# Altium footprint library WR-TBL_Rising Cage Clamp_3.81mm.PcbLib: 26 footprints (part 1 of 2)
Each footprint in its own frame and in the unit in brackets; x right, y up, seen from the top. Pads: shape width x height; smd on the part's side, far side on the other; paste and mask are expansions set on the pad; w line width, h text height; cw(c..) or ccw(c..) is an arc to the next point about the centre after c.
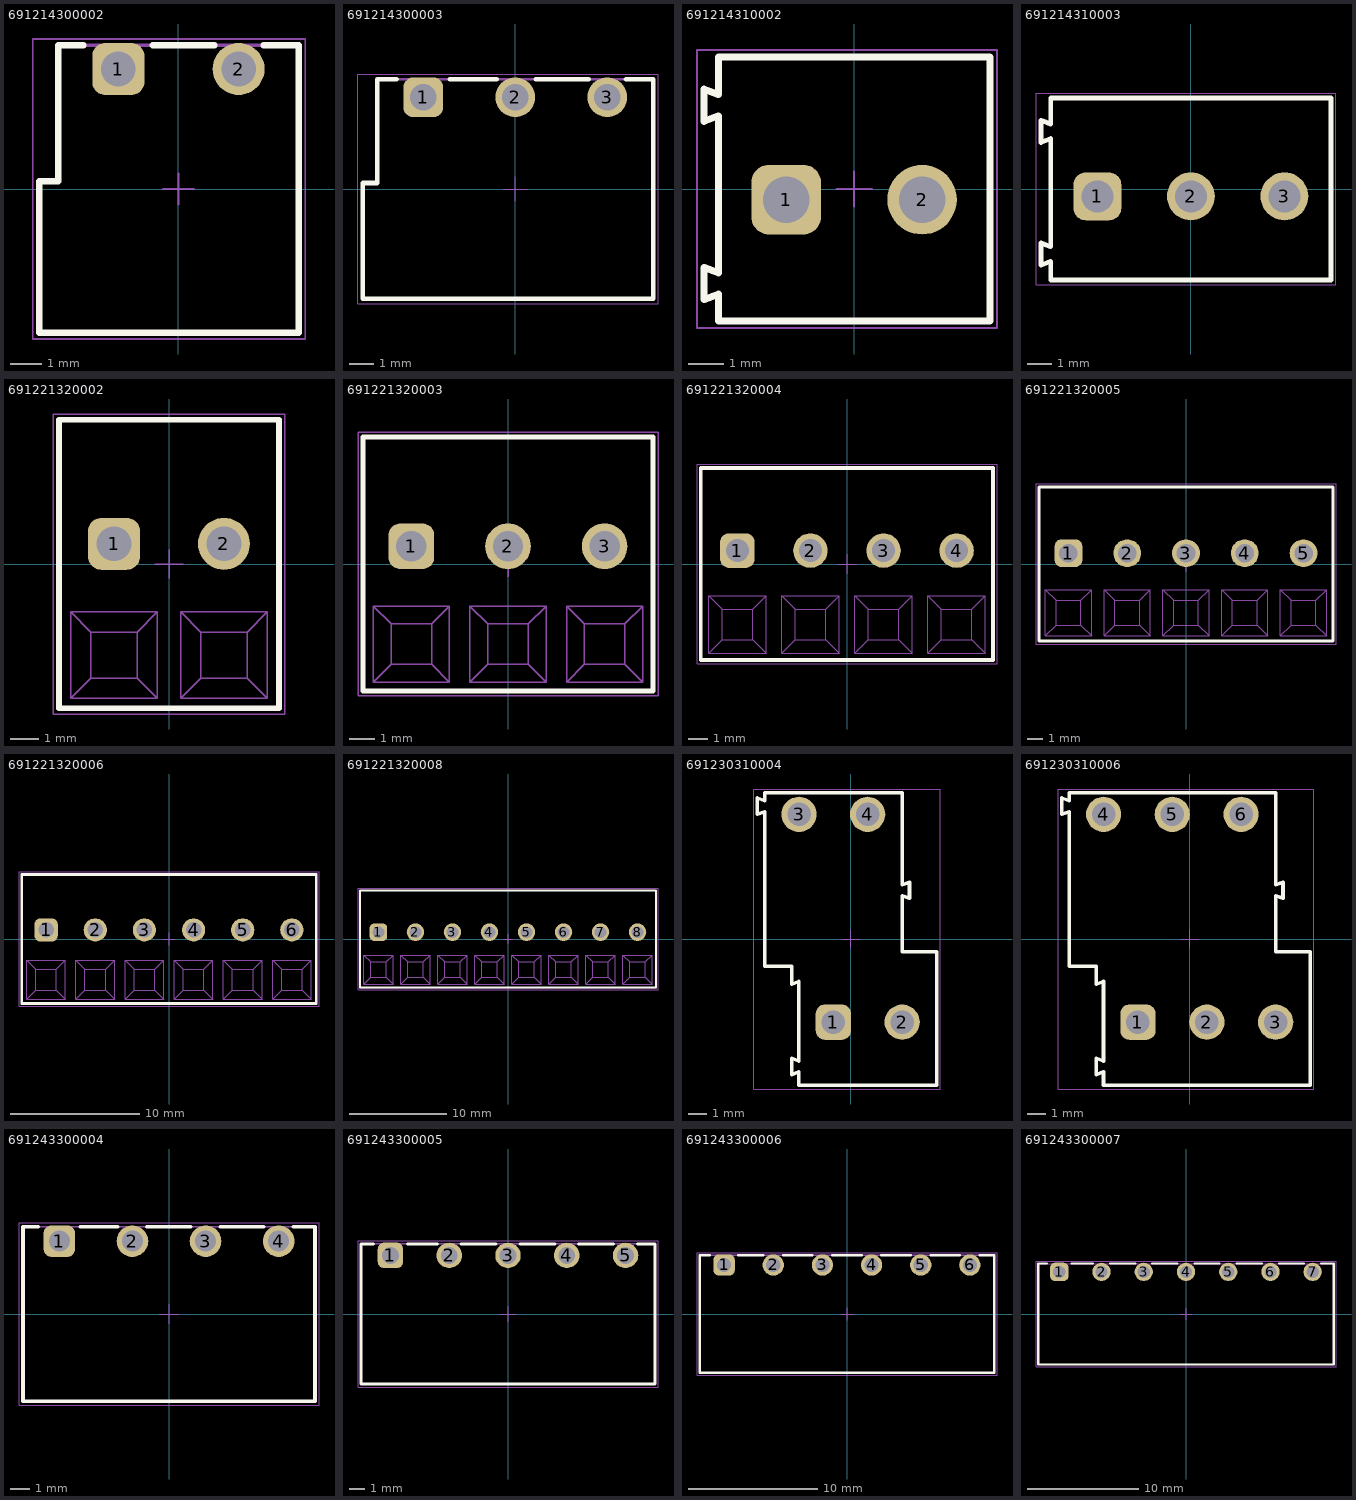
[diagram p0: the footprints below, top view; thin cyan lines are the x and y axes]

## 691214300002 [mm] "Serie 2143 - 3.81 mm _ 2 pins"
height 7.3
pads (2):
  rrect50% 1.65x1.65 hole 1.1: 1(-1.905,3.8)
  round 1.65 hole 1.1: 2(1.905,3.8)
Top Overlay:
  lines w0.2: -3.01,4.55 -3.81,4.55 -3.81,0.25 -4.41,0.25 -4.41,-4.55 3.81,-4.55 3.81,4.55 2.69,4.55 ; -0.81,4.55 1.14,4.55
Top Designator:
  text ".Designator" at -7.498,-0.5 h1.5
Top Component Outline:
  lines w0.1: -4.41,-4.55 -4.41,0.25 -3.81,0.25 -3.81,4.55 3.81,4.55 3.81,-4.55 -4.41,-4.55
Top 3D Body:
  lines w0.1: -4.41,-4.55 3.81,-4.55 3.81,4.55 -3.81,4.55 -3.81,0.25 -4.41,0.25 -4.41,-4.55
Top Courtyard:
  lines w0.05: -4.61,-4.75 -4.61,4.75 4.01,4.75 4.01,-4.75 -4.61,-4.75
Top Component Center:
  lines w0.05: -0.5,0 0.5,0 ; 0,-0.5 0,0.5
3D body "691214300002.stp": height 7.35, standoff -3.45, extent -4.41,-4.55 3.81,4.55

## 691214300003 [mm] "Serie 2143 - 3.81 mm _ 3 pins"
height 7.3
pads (3):
  rrect50% 1.65x1.65 hole 1.1: 1(-3.81,3.8)
  round 1.65 hole 1.1: 2(0,3.8) 3(3.81,3.8)
Top Overlay:
  lines w0.2: -4.915,4.55 -5.715,4.55 -5.715,0.25 -6.315,0.25 -6.315,-4.55 5.715,-4.55 5.715,4.55 4.595,4.55 ; -2.715,4.55 -0.765,4.55 ; 0.85,4.55 3.045,4.55
Top Designator:
  text ".Designator" at -7.498,-0.5 h1.5
Top Component Outline:
  lines w0.1: -6.315,-4.55 5.715,-4.55 5.715,4.55 -5.715,4.55 -5.715,0.25 -6.315,0.25 -6.315,-4.55
Top 3D Body:
  lines w0.1: -6.315,-4.55 -6.315,0.25 -5.715,0.25 -5.715,4.55 5.715,4.55 5.715,-4.55 -6.315,-4.55
Top Courtyard:
  lines w0.05: -6.515,-4.75 5.915,-4.75 5.915,4.75 -6.515,4.75 -6.515,-4.75
Top Component Center:
  lines w0.05: -0.5,0 0.5,0 ; 0,-0.5 0,0.5
3D body "691214300003.stp": height 7.35, standoff -3.45, extent -6.315,-4.55 5.715,4.55

## 691214310002 [mm] "3,81mm - Horizontal wire entry - Rising cage clamp - 02p"
height 8.5
pads (2):
  rrect50% 1.95x1.95 hole 1.3: 1(-1.905,-0.3)
  round 1.95 hole 1.3: 2(1.905,-0.3)
Top Overlay:
  lines w0.2: -4.205,-3.1 -4.205,-2.2 -3.805,-2.35 -3.805,2.05 -4.205,1.9 -4.205,2.8 -3.805,2.65 -3.805,3.7 3.805,3.7 3.805,-3.7 -3.805,-3.7 -3.805,-2.95 -4.205,-3.1
Top Designator:
  text ".Designator" at -7.498,-0.5 h1.5
Top Component Outline:
  lines w0.1: -4.205,-3.1 -3.805,-2.95 -3.805,-3.7 3.805,-3.7 3.805,3.7 -3.805,3.7 -3.805,2.65 -4.205,2.8 -4.205,1.9 -3.805,2.05 -3.805,-2.35 -4.205,-2.2 -4.205,-3.1
Top 3D Body:
  lines w0.1: -4.205,-3.1 -4.205,-2.2 -3.805,-2.35 -3.805,2.05 -4.205,1.9 -4.205,2.8 -3.805,2.65 -3.805,3.7 3.805,3.7 3.805,-3.7 -3.805,-3.7 -3.805,-2.95 -4.205,-3.1
Top Courtyard:
  lines w0.05: -4.405,-3.9 4.005,-3.9 4.005,3.9 -4.405,3.9 -4.405,-3.9
Top Component Center:
  lines w0.05: -0.5,0 0.5,0 ; 0,-0.5 0,0.5
3D body "691214310002.stp": height 8.55, standoff -3.75, extent -4.215,-3.7 3.805,3.7

## 691214310003 [mm] "3,81mm - Horizontal wire entry - Rising cage clamp - 03p"
height 8.5
pads (3):
  rrect50% 1.95x1.95 hole 1.3: 1(-3.81,-0.3)
  round 1.95 hole 1.3: 2(0,-0.3) 3(3.81,-0.3)
Top Overlay:
  lines w0.2: -6.11,-3.1 -5.71,-2.95 -5.71,-3.7 5.71,-3.7 5.71,3.7 -5.71,3.7 -5.71,2.65 -6.11,2.8 -6.11,1.9 -5.71,2.05 -5.71,-2.35 -6.11,-2.2 -6.11,-3.1
Top Designator:
  text ".Designator" at -7.498,-0.5 h1.5
Top Component Outline:
  lines w0.1: -6.11,-3.1 -6.11,-2.2 -5.71,-2.35 -5.71,2.05 -6.11,1.9 -6.11,2.8 -5.71,2.65 -5.71,3.7 5.71,3.7 5.71,-3.7 -5.71,-3.7 -5.71,-2.95 -6.11,-3.1
Top 3D Body:
  lines w0.1: -6.11,-3.1 -5.71,-2.95 -5.71,-3.7 5.71,-3.7 5.71,3.7 -5.71,3.7 -5.71,2.65 -6.11,2.8 -6.11,1.9 -5.71,2.05 -5.71,-2.35 -6.11,-2.2 -6.11,-3.1
Top Courtyard:
  lines w0.05: -6.31,-3.9 -6.31,3.9 5.91,3.9 5.91,-3.9 -6.31,-3.9
Top Component Center:
  lines w0.05: -0.5,0 0.5,0 ; 0,-0.5 0,0.5
3D body "691214310003.stp": height 8.55, standoff -3.75, extent -6.12,-3.7 5.71,3.7

## 691221320002 [mm] "3,81mm - modular - green - 55¡ã wire entry - Cage clamp - 02p"
height 9.5
pads (2):
  rrect50% 1.8x1.8 hole 1.2: 1(-1.905,0.7)
  round 1.8 hole 1.2: 2(1.905,0.7)
Top Overlay:
  lines w0.2: -3.81,-5 3.81,-5 3.81,5 -3.81,5 -3.81,-5
Top Designator:
  text ".Designator" at -7.498,-0.5 h1.5
Top Component Outline:
  lines w0.05: -3.405,-4.66 -0.405,-4.66 ; -3.405,-4.66 -3.405,-1.66 ; -3.405,-4.66 -2.705,-3.96 ; -3.405,-1.66 -0.405,-1.66 ; -3.405,-1.66 -2.705,-2.36 ; -2.705,-3.96 -2.705,-2.36 ; -2.705,-3.96 -1.105,-3.96 ; -2.705,-2.36 -1.105,-2.36 ; -1.105,-3.96 -1.105,-2.36 ; -1.105,-3.96 -0.405,-4.66 ; -1.105,-2.36 -0.405,-1.66 ; -0.405,-4.66 -0.405,-1.66 ; 0.405,-4.66 1.105,-3.96 ; 0.405,-4.66 0.405,-1.66 ; 0.405,-4.66 3.405,-4.66 ; 0.405,-1.66 1.105,-2.36 ; 0.405,-1.66 3.405,-1.66 ; 1.105,-3.96 2.705,-3.96 ; 1.105,-3.96 1.105,-2.36 ; 1.105,-2.36 2.705,-2.36 ; 2.705,-3.96 3.405,-4.66 ; 2.705,-3.96 2.705,-2.36 ; 2.705,-2.36 3.405,-1.66 ; 3.405,-4.66 3.405,-1.66
  lines w0.1: -3.81,-5 -3.81,5 3.81,5 3.81,-5 -3.81,-5
Top 3D Body:
  lines w0.05: -3.405,-4.66 -2.705,-3.96 ; -3.405,-4.66 -3.405,-1.66 ; -3.405,-4.66 -0.405,-4.66 ; -3.405,-1.66 -2.705,-2.36 ; -3.405,-1.66 -0.405,-1.66 ; -2.705,-3.96 -1.105,-3.96 ; -2.705,-3.96 -2.705,-2.36 ; -2.705,-2.36 -1.105,-2.36 ; -1.105,-3.96 -0.405,-4.66 ; -1.105,-3.96 -1.105,-2.36 ; -1.105,-2.36 -0.405,-1.66 ; -0.405,-4.66 -0.405,-1.66 ; 0.405,-4.66 3.405,-4.66 ; 0.405,-4.66 0.405,-1.66 ; 0.405,-4.66 1.105,-3.96 ; 0.405,-1.66 3.405,-1.66 ; 0.405,-1.66 1.105,-2.36 ; 1.105,-3.96 1.105,-2.36 ; 1.105,-3.96 2.705,-3.96 ; 1.105,-2.36 2.705,-2.36 ; 2.705,-3.96 2.705,-2.36 ; 2.705,-3.96 3.405,-4.66 ; 2.705,-2.36 3.405,-1.66 ; 3.405,-4.66 3.405,-1.66
  lines w0.1: -3.81,-5 3.81,-5 3.81,5 -3.81,5 -3.81,-5
Top Courtyard:
  lines w0.05: -4.01,-5.2 4.01,-5.2 4.01,5.2 -4.01,5.2 -4.01,-5.2
Top Component Center:
  lines w0.05: -0.5,0 0.5,0 ; 0,-0.5 0,0.5
3D body "691221320002.stp": height 9.55, standoff -3.45, extent -3.81,-5 3.81,5

## 691221320003 [mm] "3,81mm - modular - green - 55¡ã wire entry - Cage clamp - 03p"
height 9.5
pads (3):
  rrect50% 1.8x1.8 hole 1.2: 1(-3.81,0.7)
  round 1.8 hole 1.2: 2(0,0.7) 3(3.81,0.7)
Top Overlay:
  lines w0.2: -5.715,-5 -5.715,5 5.715,5 5.715,-5 -5.715,-5
Top Designator:
  text ".Designator" at -7.498,-0.5 h1.5
Top Component Outline:
  lines w0.05: -5.31,-4.66 -4.61,-3.96 ; -5.31,-4.66 -5.31,-1.66 ; -5.31,-4.66 -2.31,-4.66 ; -5.31,-1.66 -4.61,-2.36 ; -5.31,-1.66 -2.31,-1.66 ; -4.61,-3.96 -3.01,-3.96 ; -4.61,-3.96 -4.61,-2.36 ; -4.61,-2.36 -3.01,-2.36 ; -3.01,-3.96 -2.31,-4.66 ; -3.01,-3.96 -3.01,-2.36 ; -3.01,-2.36 -2.31,-1.66 ; -2.31,-4.66 -2.31,-1.66 ; -1.5,-4.66 1.5,-4.66 ; -1.5,-4.66 -1.5,-1.66 ; -1.5,-4.66 -0.8,-3.96 ; -1.5,-1.66 1.5,-1.66 ; -1.5,-1.66 -0.8,-2.36 ; -0.8,-3.96 -0.8,-2.36 ; -0.8,-3.96 0.8,-3.96 ; -0.8,-2.36 0.8,-2.36 ; 0.8,-3.96 0.8,-2.36 ; 0.8,-3.96 1.5,-4.66 ; 0.8,-2.36 1.5,-1.66 ; 1.5,-4.66 1.5,-1.66 ; 2.31,-4.66 5.31,-4.66 ; 2.31,-4.66 2.31,-1.66 ; 2.31,-4.66 3.01,-3.96 ; 2.31,-1.66 5.31,-1.66 ; 2.31,-1.66 3.01,-2.36 ; 3.01,-3.96 3.01,-2.36 ; 3.01,-3.96 4.61,-3.96 ; 3.01,-2.36 4.61,-2.36 ; 4.61,-3.96 4.61,-2.36 ; 4.61,-3.96 5.31,-4.66 ; 4.61,-2.36 5.31,-1.66 ; 5.31,-4.66 5.31,-1.66
  lines w0.1: -5.715,-5 5.715,-5 5.715,5 -5.715,5 -5.715,-5
Top 3D Body:
  lines w0.05: -5.31,-4.66 -2.31,-4.66 ; -5.31,-4.66 -5.31,-1.66 ; -5.31,-4.66 -4.61,-3.96 ; -5.31,-1.66 -2.31,-1.66 ; -5.31,-1.66 -4.61,-2.36 ; -4.61,-3.96 -4.61,-2.36 ; -4.61,-3.96 -3.01,-3.96 ; -4.61,-2.36 -3.01,-2.36 ; -3.01,-3.96 -3.01,-2.36 ; -3.01,-3.96 -2.31,-4.66 ; -3.01,-2.36 -2.31,-1.66 ; -2.31,-4.66 -2.31,-1.66 ; -1.5,-4.66 -0.8,-3.96 ; -1.5,-4.66 -1.5,-1.66 ; -1.5,-4.66 1.5,-4.66 ; -1.5,-1.66 -0.8,-2.36 ; -1.5,-1.66 1.5,-1.66 ; -0.8,-3.96 0.8,-3.96 ; -0.8,-3.96 -0.8,-2.36 ; -0.8,-2.36 0.8,-2.36 ; 0.8,-3.96 1.5,-4.66 ; 0.8,-3.96 0.8,-2.36 ; 0.8,-2.36 1.5,-1.66 ; 1.5,-4.66 1.5,-1.66 ; 2.31,-4.66 3.01,-3.96 ; 2.31,-4.66 2.31,-1.66 ; 2.31,-4.66 5.31,-4.66 ; 2.31,-1.66 3.01,-2.36 ; 2.31,-1.66 5.31,-1.66 ; 3.01,-3.96 4.61,-3.96 ; 3.01,-3.96 3.01,-2.36 ; 3.01,-2.36 4.61,-2.36 ; 4.61,-3.96 5.31,-4.66 ; 4.61,-3.96 4.61,-2.36 ; 4.61,-2.36 5.31,-1.66 ; 5.31,-4.66 5.31,-1.66
  lines w0.1: -5.715,-5 -5.715,5 5.715,5 5.715,-5 -5.715,-5
Top Courtyard:
  lines w0.05: -5.915,-5.2 -5.915,5.2 5.915,5.2 5.915,-5.2 -5.915,-5.2
Top Component Center:
  lines w0.05: -0.5,0 0.5,0 ; 0,-0.5 0,0.5
3D body "691221320003.stp": height 9.55, standoff -3.45, extent -5.715,-5 5.715,5

## 691221320004 [mm] "3,81mm - modular - green - 55¡ã wire entry - Cage clamp - 04p"
height 9.5
pads (4):
  rrect50% 1.8x1.8 hole 1.2: 1(-5.715,0.7)
  round 1.8 hole 1.2: 2(-1.905,0.7) 3(1.905,0.7) 4(5.715,0.7)
Top Overlay:
  lines w0.2: -7.62,-5 -7.62,5 7.62,5 7.62,-5 -7.62,-5
Top Designator:
  text ".Designator" at -7.498,-0.5 h1.5
Top Component Outline:
  lines w0.05: -7.215,-4.66 -6.515,-3.96 ; -7.215,-4.66 -7.215,-1.66 ; -7.215,-4.66 -4.215,-4.66 ; -7.215,-1.66 -6.515,-2.36 ; -7.215,-1.66 -4.215,-1.66 ; -6.515,-3.96 -4.915,-3.96 ; -6.515,-3.96 -6.515,-2.36 ; -6.515,-2.36 -4.915,-2.36 ; -4.915,-3.96 -4.215,-4.66 ; -4.915,-3.96 -4.915,-2.36 ; -4.915,-2.36 -4.215,-1.66 ; -4.215,-4.66 -4.215,-1.66 ; -3.405,-4.66 -0.405,-4.66 ; -3.405,-4.66 -3.405,-1.66 ; -3.405,-4.66 -2.705,-3.96 ; -3.405,-1.66 -0.405,-1.66 ; -3.405,-1.66 -2.705,-2.36 ; -2.705,-3.96 -2.705,-2.36 ; -2.705,-3.96 -1.105,-3.96 ; -2.705,-2.36 -1.105,-2.36 ; -1.105,-3.96 -1.105,-2.36 ; -1.105,-3.96 -0.405,-4.66 ; -1.105,-2.36 -0.405,-1.66 ; -0.405,-4.66 -0.405,-1.66 ; 0.405,-4.66 3.405,-4.66 ; 0.405,-4.66 0.405,-1.66 ; 0.405,-4.66 1.105,-3.96 ; 0.405,-1.66 3.405,-1.66 ; 0.405,-1.66 1.105,-2.36 ; 1.105,-3.96 1.105,-2.36 ; 1.105,-3.96 2.705,-3.96 ; 1.105,-2.36 2.705,-2.36 ; 2.705,-3.96 2.705,-2.36 ; 2.705,-3.96 3.405,-4.66 ; 2.705,-2.36 3.405,-1.66 ; 3.405,-4.66 3.405,-1.66 ; 4.215,-4.66 7.215,-4.66 ; 4.215,-4.66 4.215,-1.66 ; 4.215,-4.66 4.915,-3.96 ; 4.215,-1.66 7.215,-1.66 ; 4.215,-1.66 4.915,-2.36 ; 4.915,-3.96 4.915,-2.36 ; 4.915,-3.96 6.515,-3.96 ; 4.915,-2.36 6.515,-2.36 ; 6.515,-3.96 6.515,-2.36 ; 6.515,-3.96 7.215,-4.66 ; 6.515,-2.36 7.215,-1.66 ; 7.215,-4.66 7.215,-1.66
  lines w0.1: -7.62,-5 7.62,-5 7.62,5 -7.62,5 -7.62,-5
Top 3D Body:
  lines w0.05: -7.215,-4.66 -4.215,-4.66 ; -7.215,-4.66 -7.215,-1.66 ; -7.215,-4.66 -6.515,-3.96 ; -7.215,-1.66 -4.215,-1.66 ; -7.215,-1.66 -6.515,-2.36 ; -6.515,-3.96 -6.515,-2.36 ; -6.515,-3.96 -4.915,-3.96 ; -6.515,-2.36 -4.915,-2.36 ; -4.915,-3.96 -4.915,-2.36 ; -4.915,-3.96 -4.215,-4.66 ; -4.915,-2.36 -4.215,-1.66 ; -4.215,-4.66 -4.215,-1.66 ; -3.405,-4.66 -2.705,-3.96 ; -3.405,-4.66 -3.405,-1.66 ; -3.405,-4.66 -0.405,-4.66 ; -3.405,-1.66 -2.705,-2.36 ; -3.405,-1.66 -0.405,-1.66 ; -2.705,-3.96 -1.105,-3.96 ; -2.705,-3.96 -2.705,-2.36 ; -2.705,-2.36 -1.105,-2.36 ; -1.105,-3.96 -0.405,-4.66 ; -1.105,-3.96 -1.105,-2.36 ; -1.105,-2.36 -0.405,-1.66 ; -0.405,-4.66 -0.405,-1.66 ; 0.405,-4.66 1.105,-3.96 ; 0.405,-4.66 0.405,-1.66 ; 0.405,-4.66 3.405,-4.66 ; 0.405,-1.66 1.105,-2.36 ; 0.405,-1.66 3.405,-1.66 ; 1.105,-3.96 2.705,-3.96 ; 1.105,-3.96 1.105,-2.36 ; 1.105,-2.36 2.705,-2.36 ; 2.705,-3.96 3.405,-4.66 ; 2.705,-3.96 2.705,-2.36 ; 2.705,-2.36 3.405,-1.66 ; 3.405,-4.66 3.405,-1.66 ; 4.215,-4.66 4.915,-3.96 ; 4.215,-4.66 4.215,-1.66 ; 4.215,-4.66 7.215,-4.66 ; 4.215,-1.66 4.915,-2.36 ; 4.215,-1.66 7.215,-1.66 ; 4.915,-3.96 6.515,-3.96 ; 4.915,-3.96 4.915,-2.36 ; 4.915,-2.36 6.515,-2.36 ; 6.515,-3.96 7.215,-4.66 ; 6.515,-3.96 6.515,-2.36 ; 6.515,-2.36 7.215,-1.66 ; 7.215,-4.66 7.215,-1.66
  lines w0.1: -7.62,-5 -7.62,5 7.62,5 7.62,-5 -7.62,-5
Top Courtyard:
  lines w0.05: -7.82,-5.2 -7.82,5.2 7.82,5.2 7.82,-5.2 -7.82,-5.2
Top Component Center:
  lines w0.05: -0.5,0 0.5,0 ; 0,-0.5 0,0.5
3D body "691221320004.stp": height 9.55, standoff -3.45, extent -7.62,-5 7.62,5

## 691221320005 [mm] "3,81mm - modular - green - 55¡ã wire entry - Cage clamp - 05p"
height 9.5
pads (5):
  rrect50% 1.8x1.8 hole 1.2: 1(-7.62,0.7)
  round 1.8 hole 1.2: 2(-3.81,0.7) 3(0,0.7) 4(3.81,0.7) 5(7.62,0.7)
Top Overlay:
  lines w0.2: -9.525,-5 9.525,-5 9.525,5 -9.525,5 -9.525,-5
Top Designator:
  text ".Designator" at -7.498,-0.5 h1.5
Top Component Outline:
  lines w0.05: -9.12,-4.66 -6.12,-4.66 ; -9.12,-4.66 -9.12,-1.66 ; -9.12,-4.66 -8.42,-3.96 ; -9.12,-1.66 -6.12,-1.66 ; -9.12,-1.66 -8.42,-2.36 ; -8.42,-3.96 -8.42,-2.36 ; -8.42,-3.96 -6.82,-3.96 ; -8.42,-2.36 -6.82,-2.36 ; -6.82,-3.96 -6.82,-2.36 ; -6.82,-3.96 -6.12,-4.66 ; -6.82,-2.36 -6.12,-1.66 ; -6.12,-4.66 -6.12,-1.66 ; -5.31,-4.66 -4.61,-3.96 ; -5.31,-4.66 -5.31,-1.66 ; -5.31,-4.66 -2.31,-4.66 ; -5.31,-1.66 -4.61,-2.36 ; -5.31,-1.66 -2.31,-1.66 ; -4.61,-3.96 -3.01,-3.96 ; -4.61,-3.96 -4.61,-2.36 ; -4.61,-2.36 -3.01,-2.36 ; -3.01,-3.96 -2.31,-4.66 ; -3.01,-3.96 -3.01,-2.36 ; -3.01,-2.36 -2.31,-1.66 ; -2.31,-4.66 -2.31,-1.66 ; -1.5,-4.66 -0.8,-3.96 ; -1.5,-4.66 -1.5,-1.66 ; -1.5,-4.66 1.5,-4.66 ; -1.5,-1.66 -0.8,-2.36 ; -1.5,-1.66 1.5,-1.66 ; -0.8,-3.96 0.8,-3.96 ; -0.8,-3.96 -0.8,-2.36 ; -0.8,-2.36 0.8,-2.36 ; 0.8,-3.96 1.5,-4.66 ; 0.8,-3.96 0.8,-2.36 ; 0.8,-2.36 1.5,-1.66 ; 1.5,-4.66 1.5,-1.66 ; 2.31,-4.66 3.01,-3.96 ; 2.31,-4.66 2.31,-1.66 ; 2.31,-4.66 5.31,-4.66 ; 2.31,-1.66 3.01,-2.36 ; 2.31,-1.66 5.31,-1.66 ; 3.01,-3.96 4.61,-3.96 ; 3.01,-3.96 3.01,-2.36 ; 3.01,-2.36 4.61,-2.36 ; 4.61,-3.96 5.31,-4.66 ; 4.61,-3.96 4.61,-2.36 ; 4.61,-2.36 5.31,-1.66 ; 5.31,-4.66 5.31,-1.66 ; 6.12,-4.66 6.82,-3.96 ; 6.12,-4.66 6.12,-1.66 ; 6.12,-4.66 9.12,-4.66 ; 6.12,-1.66 6.82,-2.36 ; 6.12,-1.66 9.12,-1.66 ; 6.82,-3.96 8.42,-3.96 ; 6.82,-3.96 6.82,-2.36 ; 6.82,-2.36 8.42,-2.36 ; 8.42,-3.96 9.12,-4.66 ; 8.42,-3.96 8.42,-2.36 ; 8.42,-2.36 9.12,-1.66 ; 9.12,-4.66 9.12,-1.66
  lines w0.1: -9.525,-5 -9.525,5 9.525,5 9.525,-5 -9.525,-5
Top 3D Body:
  lines w0.05: -9.12,-4.66 -8.42,-3.96 ; -9.12,-4.66 -9.12,-1.66 ; -9.12,-4.66 -6.12,-4.66 ; -9.12,-1.66 -8.42,-2.36 ; -9.12,-1.66 -6.12,-1.66 ; -8.42,-3.96 -6.82,-3.96 ; -8.42,-3.96 -8.42,-2.36 ; -8.42,-2.36 -6.82,-2.36 ; -6.82,-3.96 -6.12,-4.66 ; -6.82,-3.96 -6.82,-2.36 ; -6.82,-2.36 -6.12,-1.66 ; -6.12,-4.66 -6.12,-1.66 ; -5.31,-4.66 -2.31,-4.66 ; -5.31,-4.66 -5.31,-1.66 ; -5.31,-4.66 -4.61,-3.96 ; -5.31,-1.66 -2.31,-1.66 ; -5.31,-1.66 -4.61,-2.36 ; -4.61,-3.96 -4.61,-2.36 ; -4.61,-3.96 -3.01,-3.96 ; -4.61,-2.36 -3.01,-2.36 ; -3.01,-3.96 -3.01,-2.36 ; -3.01,-3.96 -2.31,-4.66 ; -3.01,-2.36 -2.31,-1.66 ; -2.31,-4.66 -2.31,-1.66 ; -1.5,-4.66 1.5,-4.66 ; -1.5,-4.66 -1.5,-1.66 ; -1.5,-4.66 -0.8,-3.96 ; -1.5,-1.66 1.5,-1.66 ; -1.5,-1.66 -0.8,-2.36 ; -0.8,-3.96 -0.8,-2.36 ; -0.8,-3.96 0.8,-3.96 ; -0.8,-2.36 0.8,-2.36 ; 0.8,-3.96 0.8,-2.36 ; 0.8,-3.96 1.5,-4.66 ; 0.8,-2.36 1.5,-1.66 ; 1.5,-4.66 1.5,-1.66 ; 2.31,-4.66 5.31,-4.66 ; 2.31,-4.66 2.31,-1.66 ; 2.31,-4.66 3.01,-3.96 ; 2.31,-1.66 5.31,-1.66 ; 2.31,-1.66 3.01,-2.36 ; 3.01,-3.96 3.01,-2.36 ; 3.01,-3.96 4.61,-3.96 ; 3.01,-2.36 4.61,-2.36 ; 4.61,-3.96 4.61,-2.36 ; 4.61,-3.96 5.31,-4.66 ; 4.61,-2.36 5.31,-1.66 ; 5.31,-4.66 5.31,-1.66 ; 6.12,-4.66 9.12,-4.66 ; 6.12,-4.66 6.12,-1.66 ; 6.12,-4.66 6.82,-3.96 ; 6.12,-1.66 9.12,-1.66 ; 6.12,-1.66 6.82,-2.36 ; 6.82,-3.96 6.82,-2.36 ; 6.82,-3.96 8.42,-3.96 ; 6.82,-2.36 8.42,-2.36 ; 8.42,-3.96 8.42,-2.36 ; 8.42,-3.96 9.12,-4.66 ; 8.42,-2.36 9.12,-1.66 ; 9.12,-4.66 9.12,-1.66
  lines w0.1: -9.525,-5 9.525,-5 9.525,5 -9.525,5 -9.525,-5
Top Courtyard:
  lines w0.05: -9.725,-5.2 9.725,-5.2 9.725,5.2 -9.725,5.2 -9.725,-5.2
Top Component Center:
  lines w0.05: -0.5,0 0.5,0 ; 0,-0.5 0,0.5
3D body "691221320005.stp": height 9.55, standoff -3.45, extent -9.525,-5 9.525,5

## 691221320006 [mm] "3,81mm - modular - green - 55¡ã wire entry - Cage clamp - 06p"
height 9.5
pads (6):
  rrect50% 1.8x1.8 hole 1.2: 1(-9.525,0.7)
  round 1.8 hole 1.2: 2(-5.715,0.7) 3(-1.905,0.7) 4(1.905,0.7) 5(5.715,0.7) 6(9.525,0.7)
Top Overlay:
  lines w0.2: -11.43,-5 -11.43,5 11.43,5 11.43,-5 -11.43,-5
Top Designator:
  text ".Designator" at -7.498,-0.5 h1.5
Top Component Outline:
  lines w0.05: -11.025,-4.66 -10.325,-3.96 ; -11.025,-4.66 -11.025,-1.66 ; -11.025,-4.66 -8.025,-4.66 ; -11.025,-1.66 -10.325,-2.36 ; -11.025,-1.66 -8.025,-1.66 ; -10.325,-3.96 -8.725,-3.96 ; -10.325,-3.96 -10.325,-2.36 ; -10.325,-2.36 -8.725,-2.36 ; -8.725,-3.96 -8.025,-4.66 ; -8.725,-3.96 -8.725,-2.36 ; -8.725,-2.36 -8.025,-1.66 ; -8.025,-4.66 -8.025,-1.66 ; -7.215,-4.66 -4.215,-4.66 ; -7.215,-4.66 -7.215,-1.66 ; -7.215,-4.66 -6.515,-3.96 ; -7.215,-1.66 -4.215,-1.66 ; -7.215,-1.66 -6.515,-2.36 ; -6.515,-3.96 -6.515,-2.36 ; -6.515,-3.96 -4.915,-3.96 ; -6.515,-2.36 -4.915,-2.36 ; -4.915,-3.96 -4.915,-2.36 ; -4.915,-3.96 -4.215,-4.66 ; -4.915,-2.36 -4.215,-1.66 ; -4.215,-4.66 -4.215,-1.66 ; -3.405,-4.66 -0.405,-4.66 ; -3.405,-4.66 -3.405,-1.66 ; -3.405,-4.66 -2.705,-3.96 ; -3.405,-1.66 -0.405,-1.66 ; -3.405,-1.66 -2.705,-2.36 ; -2.705,-3.96 -2.705,-2.36 ; -2.705,-3.96 -1.105,-3.96 ; -2.705,-2.36 -1.105,-2.36 ; -1.105,-3.96 -1.105,-2.36 ; -1.105,-3.96 -0.405,-4.66 ; -1.105,-2.36 -0.405,-1.66 ; -0.405,-4.66 -0.405,-1.66 ; 0.405,-4.66 3.405,-4.66 ; 0.405,-4.66 0.405,-1.66 ; 0.405,-4.66 1.105,-3.96 ; 0.405,-1.66 3.405,-1.66 ; 0.405,-1.66 1.105,-2.36 ; 1.105,-3.96 1.105,-2.36 ; 1.105,-3.96 2.705,-3.96 ; 1.105,-2.36 2.705,-2.36 ; 2.705,-3.96 2.705,-2.36 ; 2.705,-3.96 3.405,-4.66 ; 2.705,-2.36 3.405,-1.66 ; 3.405,-4.66 3.405,-1.66 ; 4.215,-4.66 7.215,-4.66 ; 4.215,-4.66 4.215,-1.66 ; 4.215,-4.66 4.915,-3.96 ; 4.215,-1.66 7.215,-1.66 ; 4.215,-1.66 4.915,-2.36 ; 4.915,-3.96 4.915,-2.36 ; 4.915,-3.96 6.515,-3.96 ; 4.915,-2.36 6.515,-2.36 ; 6.515,-3.96 6.515,-2.36 ; 6.515,-3.96 7.215,-4.66 ; 6.515,-2.36 7.215,-1.66 ; 7.215,-4.66 7.215,-1.66 ; 8.025,-4.66 8.725,-3.96 ; 8.025,-4.66 8.025,-1.66 ; 8.025,-4.66 11.025,-4.66 ; 8.025,-1.66 8.725,-2.36 ; 8.025,-1.66 11.025,-1.66 ; 8.725,-3.96 10.325,-3.96 ; 8.725,-3.96 8.725,-2.36 ; 8.725,-2.36 10.325,-2.36 ; 10.325,-3.96 11.025,-4.66 ; 10.325,-3.96 10.325,-2.36 ; 10.325,-2.36 11.025,-1.66 ; 11.025,-4.66 11.025,-1.66
  lines w0.1: -11.43,-5 11.43,-5 11.43,5 -11.43,5 -11.43,-5
Top 3D Body:
  lines w0.05: -11.025,-4.66 -8.025,-4.66 ; -11.025,-4.66 -11.025,-1.66 ; -11.025,-4.66 -10.325,-3.96 ; -11.025,-1.66 -8.025,-1.66 ; -11.025,-1.66 -10.325,-2.36 ; -10.325,-3.96 -10.325,-2.36 ; -10.325,-3.96 -8.725,-3.96 ; -10.325,-2.36 -8.725,-2.36 ; -8.725,-3.96 -8.725,-2.36 ; -8.725,-3.96 -8.025,-4.66 ; -8.725,-2.36 -8.025,-1.66 ; -8.025,-4.66 -8.025,-1.66 ; -7.215,-4.66 -6.515,-3.96 ; -7.215,-4.66 -7.215,-1.66 ; -7.215,-4.66 -4.215,-4.66 ; -7.215,-1.66 -6.515,-2.36 ; -7.215,-1.66 -4.215,-1.66 ; -6.515,-3.96 -4.915,-3.96 ; -6.515,-3.96 -6.515,-2.36 ; -6.515,-2.36 -4.915,-2.36 ; -4.915,-3.96 -4.215,-4.66 ; -4.915,-3.96 -4.915,-2.36 ; -4.915,-2.36 -4.215,-1.66 ; -4.215,-4.66 -4.215,-1.66 ; -3.405,-4.66 -2.705,-3.96 ; -3.405,-4.66 -3.405,-1.66 ; -3.405,-4.66 -0.405,-4.66 ; -3.405,-1.66 -2.705,-2.36 ; -3.405,-1.66 -0.405,-1.66 ; -2.705,-3.96 -1.105,-3.96 ; -2.705,-3.96 -2.705,-2.36 ; -2.705,-2.36 -1.105,-2.36 ; -1.105,-3.96 -0.405,-4.66 ; -1.105,-3.96 -1.105,-2.36 ; -1.105,-2.36 -0.405,-1.66 ; -0.405,-4.66 -0.405,-1.66 ; 0.405,-4.66 1.105,-3.96 ; 0.405,-4.66 0.405,-1.66 ; 0.405,-4.66 3.405,-4.66 ; 0.405,-1.66 1.105,-2.36 ; 0.405,-1.66 3.405,-1.66 ; 1.105,-3.96 2.705,-3.96 ; 1.105,-3.96 1.105,-2.36 ; 1.105,-2.36 2.705,-2.36 ; 2.705,-3.96 3.405,-4.66 ; 2.705,-3.96 2.705,-2.36 ; 2.705,-2.36 3.405,-1.66 ; 3.405,-4.66 3.405,-1.66 ; 4.215,-4.66 4.915,-3.96 ; 4.215,-4.66 4.215,-1.66 ; 4.215,-4.66 7.215,-4.66 ; 4.215,-1.66 4.915,-2.36 ; 4.215,-1.66 7.215,-1.66 ; 4.915,-3.96 6.515,-3.96 ; 4.915,-3.96 4.915,-2.36 ; 4.915,-2.36 6.515,-2.36 ; 6.515,-3.96 7.215,-4.66 ; 6.515,-3.96 6.515,-2.36 ; 6.515,-2.36 7.215,-1.66 ; 7.215,-4.66 7.215,-1.66 ; 8.025,-4.66 11.025,-4.66 ; 8.025,-4.66 8.025,-1.66 ; 8.025,-4.66 8.725,-3.96 ; 8.025,-1.66 11.025,-1.66 ; 8.025,-1.66 8.725,-2.36 ; 8.725,-3.96 8.725,-2.36 ; 8.725,-3.96 10.325,-3.96 ; 8.725,-2.36 10.325,-2.36 ; 10.325,-3.96 10.325,-2.36 ; 10.325,-3.96 11.025,-4.66 ; 10.325,-2.36 11.025,-1.66 ; 11.025,-4.66 11.025,-1.66
  lines w0.1: -11.43,-5 -11.43,5 11.43,5 11.43,-5 -11.43,-5
Top Courtyard:
  lines w0.05: -11.63,-5.2 -11.63,5.2 11.63,5.2 11.63,-5.2 -11.63,-5.2
Top Component Center:
  lines w0.05: -0.5,0 0.5,0 ; 0,-0.5 0,0.5
3D body "691221320006.stp": height 9.55, standoff -3.45, extent -11.43,-5 11.43,5

## 691221320008 [mm] "3,81mm - modular - green - 55¡ã wire entry - Cage clamp - 08p"
height 9.5
pads (8):
  rrect50% 1.8x1.8 hole 1.2: 1(-13.335,0.7)
  round 1.8 hole 1.2: 2(-9.525,0.7) 3(-5.715,0.7) 4(-1.905,0.7) 5(1.905,0.7) 6(5.715,0.7) 7(9.525,0.7) 8(13.335,0.7)
Top Overlay:
  lines w0.2: -15.24,-5 -15.24,5 15.24,5 15.24,-5 -15.24,-5
Top Designator:
  text ".Designator" at -7.498,-0.5 h1.5
Top Component Outline:
  lines w0.05: -14.835,-4.66 -14.135,-3.96 ; -14.835,-4.66 -14.835,-1.66 ; -14.835,-4.66 -11.835,-4.66 ; -14.835,-1.66 -14.135,-2.36 ; -14.835,-1.66 -11.835,-1.66 ; -14.135,-3.96 -12.535,-3.96 ; -14.135,-3.96 -14.135,-2.36 ; -14.135,-2.36 -12.535,-2.36 ; -12.535,-3.96 -11.835,-4.66 ; -12.535,-3.96 -12.535,-2.36 ; -12.535,-2.36 -11.835,-1.66 ; -11.835,-4.66 -11.835,-1.66 ; -11.025,-4.66 -8.025,-4.66 ; -11.025,-4.66 -11.025,-1.66 ; -11.025,-4.66 -10.325,-3.96 ; -11.025,-1.66 -8.025,-1.66 ; -11.025,-1.66 -10.325,-2.36 ; -10.325,-3.96 -10.325,-2.36 ; -10.325,-3.96 -8.725,-3.96 ; -10.325,-2.36 -8.725,-2.36 ; -8.725,-3.96 -8.725,-2.36 ; -8.725,-3.96 -8.025,-4.66 ; -8.725,-2.36 -8.025,-1.66 ; -8.025,-4.66 -8.025,-1.66 ; -7.215,-4.66 -4.215,-4.66 ; -7.215,-4.66 -7.215,-1.66 ; -7.215,-4.66 -6.515,-3.96 ; -7.215,-1.66 -4.215,-1.66 ; -7.215,-1.66 -6.515,-2.36 ; -6.515,-3.96 -6.515,-2.36 ; -6.515,-3.96 -4.915,-3.96 ; -6.515,-2.36 -4.915,-2.36 ; -4.915,-3.96 -4.915,-2.36 ; -4.915,-3.96 -4.215,-4.66 ; -4.915,-2.36 -4.215,-1.66 ; -4.215,-4.66 -4.215,-1.66 ; -3.405,-4.66 -0.405,-4.66 ; -3.405,-4.66 -3.405,-1.66 ; -3.405,-4.66 -2.705,-3.96 ; -3.405,-1.66 -0.405,-1.66 ; -3.405,-1.66 -2.705,-2.36 ; -2.705,-3.96 -2.705,-2.36 ; -2.705,-3.96 -1.105,-3.96 ; -2.705,-2.36 -1.105,-2.36 ; -1.105,-3.96 -1.105,-2.36 ; -1.105,-3.96 -0.405,-4.66 ; -1.105,-2.36 -0.405,-1.66 ; -0.405,-4.66 -0.405,-1.66 ; 0.405,-4.66 3.405,-4.66 ; 0.405,-4.66 0.405,-1.66 ; 0.405,-4.66 1.105,-3.96 ; 0.405,-1.66 3.405,-1.66 ; 0.405,-1.66 1.105,-2.36 ; 1.105,-3.96 1.105,-2.36 ; 1.105,-3.96 2.705,-3.96 ; 1.105,-2.36 2.705,-2.36 ; 2.705,-3.96 2.705,-2.36 ; 2.705,-3.96 3.405,-4.66 ; 2.705,-2.36 3.405,-1.66 ; 3.405,-4.66 3.405,-1.66 ; 4.215,-4.66 4.915,-3.96 ; 4.215,-4.66 4.215,-1.66 ; 4.215,-4.66 7.215,-4.66 ; 4.215,-1.66 4.915,-2.36 ; 4.215,-1.66 7.215,-1.66 ; 4.915,-3.96 6.515,-3.96 ; 4.915,-3.96 4.915,-2.36 ; 4.915,-2.36 6.515,-2.36 ; 6.515,-3.96 7.215,-4.66 ; 6.515,-3.96 6.515,-2.36 ; 6.515,-2.36 7.215,-1.66 ; 7.215,-4.66 7.215,-1.66 ; 8.025,-4.66 11.025,-4.66 ; 8.025,-4.66 8.025,-1.66 ; 8.025,-4.66 8.725,-3.96 ; 8.025,-1.66 11.025,-1.66 ; 8.025,-1.66 8.725,-2.36 ; 8.725,-3.96 8.725,-2.36 ; 8.725,-3.96 10.325,-3.96 ; 8.725,-2.36 10.325,-2.36 ; 10.325,-3.96 10.325,-2.36 ; 10.325,-3.96 11.025,-4.66 ; 10.325,-2.36 11.025,-1.66 ; 11.025,-4.66 11.025,-1.66 ; 11.835,-4.66 14.835,-4.66 ; 11.835,-4.66 11.835,-1.66 ; 11.835,-4.66 12.535,-3.96 ; 11.835,-1.66 14.835,-1.66 ; 11.835,-1.66 12.535,-2.36 ; 12.535,-3.96 12.535,-2.36 ; 12.535,-3.96 14.135,-3.96 ; 12.535,-2.36 14.135,-2.36 ; 14.135,-3.96 14.135,-2.36 ; 14.135,-3.96 14.835,-4.66 ; 14.135,-2.36 14.835,-1.66 ; 14.835,-4.66 14.835,-1.66
  lines w0.1: -15.24,-5 15.24,-5 15.24,5 -15.24,5 -15.24,-5
Top 3D Body:
  lines w0.05: -14.835,-4.66 -11.835,-4.66 ; -14.835,-4.66 -14.835,-1.66 ; -14.835,-4.66 -14.135,-3.96 ; -14.835,-1.66 -11.835,-1.66 ; -14.835,-1.66 -14.135,-2.36 ; -14.135,-3.96 -14.135,-2.36 ; -14.135,-3.96 -12.535,-3.96 ; -14.135,-2.36 -12.535,-2.36 ; -12.535,-3.96 -12.535,-2.36 ; -12.535,-3.96 -11.835,-4.66 ; -12.535,-2.36 -11.835,-1.66 ; -11.835,-4.66 -11.835,-1.66 ; -11.025,-4.66 -10.325,-3.96 ; -11.025,-4.66 -11.025,-1.66 ; -11.025,-4.66 -8.025,-4.66 ; -11.025,-1.66 -10.325,-2.36 ; -11.025,-1.66 -8.025,-1.66 ; -10.325,-3.96 -8.725,-3.96 ; -10.325,-3.96 -10.325,-2.36 ; -10.325,-2.36 -8.725,-2.36 ; -8.725,-3.96 -8.025,-4.66 ; -8.725,-3.96 -8.725,-2.36 ; -8.725,-2.36 -8.025,-1.66 ; -8.025,-4.66 -8.025,-1.66 ; -7.215,-4.66 -6.515,-3.96 ; -7.215,-4.66 -7.215,-1.66 ; -7.215,-4.66 -4.215,-4.66 ; -7.215,-1.66 -6.515,-2.36 ; -7.215,-1.66 -4.215,-1.66 ; -6.515,-3.96 -4.915,-3.96 ; -6.515,-3.96 -6.515,-2.36 ; -6.515,-2.36 -4.915,-2.36 ; -4.915,-3.96 -4.215,-4.66 ; -4.915,-3.96 -4.915,-2.36 ; -4.915,-2.36 -4.215,-1.66 ; -4.215,-4.66 -4.215,-1.66 ; -3.405,-4.66 -2.705,-3.96 ; -3.405,-4.66 -3.405,-1.66 ; -3.405,-4.66 -0.405,-4.66 ; -3.405,-1.66 -2.705,-2.36 ; -3.405,-1.66 -0.405,-1.66 ; -2.705,-3.96 -1.105,-3.96 ; -2.705,-3.96 -2.705,-2.36 ; -2.705,-2.36 -1.105,-2.36 ; -1.105,-3.96 -0.405,-4.66 ; -1.105,-3.96 -1.105,-2.36 ; -1.105,-2.36 -0.405,-1.66 ; -0.405,-4.66 -0.405,-1.66 ; 0.405,-4.66 1.105,-3.96 ; 0.405,-4.66 0.405,-1.66 ; 0.405,-4.66 3.405,-4.66 ; 0.405,-1.66 1.105,-2.36 ; 0.405,-1.66 3.405,-1.66 ; 1.105,-3.96 2.705,-3.96 ; 1.105,-3.96 1.105,-2.36 ; 1.105,-2.36 2.705,-2.36 ; 2.705,-3.96 3.405,-4.66 ; 2.705,-3.96 2.705,-2.36 ; 2.705,-2.36 3.405,-1.66 ; 3.405,-4.66 3.405,-1.66 ; 4.215,-4.66 7.215,-4.66 ; 4.215,-4.66 4.215,-1.66 ; 4.215,-4.66 4.915,-3.96 ; 4.215,-1.66 7.215,-1.66 ; 4.215,-1.66 4.915,-2.36 ; 4.915,-3.96 4.915,-2.36 ; 4.915,-3.96 6.515,-3.96 ; 4.915,-2.36 6.515,-2.36 ; 6.515,-3.96 6.515,-2.36 ; 6.515,-3.96 7.215,-4.66 ; 6.515,-2.36 7.215,-1.66 ; 7.215,-4.66 7.215,-1.66 ; 8.025,-4.66 8.725,-3.96 ; 8.025,-4.66 8.025,-1.66 ; 8.025,-4.66 11.025,-4.66 ; 8.025,-1.66 8.725,-2.36 ; 8.025,-1.66 11.025,-1.66 ; 8.725,-3.96 10.325,-3.96 ; 8.725,-3.96 8.725,-2.36 ; 8.725,-2.36 10.325,-2.36 ; 10.325,-3.96 11.025,-4.66 ; 10.325,-3.96 10.325,-2.36 ; 10.325,-2.36 11.025,-1.66 ; 11.025,-4.66 11.025,-1.66 ; 11.835,-4.66 12.535,-3.96 ; 11.835,-4.66 11.835,-1.66 ; 11.835,-4.66 14.835,-4.66 ; 11.835,-1.66 12.535,-2.36 ; 11.835,-1.66 14.835,-1.66 ; 12.535,-3.96 14.135,-3.96 ; 12.535,-3.96 12.535,-2.36 ; 12.535,-2.36 14.135,-2.36 ; 14.135,-3.96 14.835,-4.66 ; 14.135,-3.96 14.135,-2.36 ; 14.135,-2.36 14.835,-1.66 ; 14.835,-4.66 14.835,-1.66
  lines w0.1: -15.24,-5 -15.24,5 15.24,5 15.24,-5 -15.24,-5
Top Courtyard:
  lines w0.05: -15.44,-5.2 -15.44,5.2 15.44,5.2 15.44,-5.2 -15.44,-5.2
Top Component Center:
  lines w0.05: -0.5,0 0.5,0 ; 0,-0.5 0,0.5
3D body "691221320008.stp": height 9.55, standoff -3.45, extent -15.24,-5 15.24,5

## 691230310004 [mm] "3,81mm - modular - 2 rows - Right - horizontal entry with rising cage clamp - 04p"
height 16.2
pads (4):
  rrect50% 1.95x1.95 hole 1.3: 1(-0.955,-4.6)
  round 1.95 hole 1.3: 2(2.855,-4.6) 3(-2.855,6.9) 4(0.945,6.9)
Top Overlay:
  lines w0.2: -5.16,6.9 -4.76,7.05 -4.76,-1.5 -3.26,-1.5 -3.26,-2.5 -2.86,-2.35 -2.86,-6.75 -3.26,-6.6 -3.26,-7.5 -2.86,-7.35 -2.86,-8.1 4.76,-8.1 4.76,-0.7 2.86,-0.7 2.86,2.4 3.26,2.25 3.26,3.15 2.86,3 2.86,8.1 -4.76,8.1 -4.76,7.65 -5.16,7.8 -5.16,6.9
Top Designator:
  text ".Designator" at -7.498,-0.5 h1.5
Top Component Outline:
  lines w0.1: -5.16,6.9 -5.16,7.8 -4.76,7.65 -4.76,8.1 2.86,8.1 2.86,3 3.26,3.15 3.26,2.25 2.86,2.4 2.86,-0.7 4.76,-0.7 4.76,-8.1 -2.86,-8.1 -2.86,-7.35 -3.26,-7.5 -3.26,-6.6 -2.86,-6.75 -2.86,-2.35 -3.26,-2.5 -3.26,-1.5 -4.76,-1.5 -4.76,7.05 -5.16,6.9
Top 3D Body:
  lines w0.1: -5.16,6.9 -4.76,7.05 -4.76,-1.5 -3.26,-1.5 -3.26,-2.5 -2.86,-2.35 -2.86,-6.75 -3.26,-6.6 -3.26,-7.5 -2.86,-7.35 -2.86,-8.1 4.76,-8.1 4.76,-0.7 2.86,-0.7 2.86,2.4 3.26,2.25 3.26,3.15 2.86,3 2.86,8.1 -4.76,8.1 -4.76,7.65 -5.16,7.8 -5.16,6.9
Top Courtyard:
  lines w0.05: -5.36,-8.3 -5.36,8.3 4.96,8.3 4.96,-8.3 -5.36,-8.3
Top Component Center:
  lines w0.05: -0.5,0 0.5,0 ; 0,-0.5 0,0.5
3D body "691230310004.stp": height 16.35, standoff -3.65, extent -5.125,-8.1 4.76,8

## 691230310006 [mm] "3,81mm - modular - 2 rows - Right - horizontal entry with rising cage clamp - 06p"
height 16.2
pads (6):
  rrect50% 1.95x1.95 hole 1.3: 1(-2.86,-4.6)
  round 1.95 hole 1.3: 2(0.95,-4.6) 3(4.76,-4.6) 4(-4.76,6.9) 5(-0.96,6.9) 6(2.85,6.9)
Top Overlay:
  lines w0.2: -7.065,6.9 -6.665,7.05 -6.665,-1.5 -5.165,-1.5 -5.165,-2.5 -4.765,-2.35 -4.765,-6.75 -5.165,-6.6 -5.165,-7.5 -4.765,-7.35 -4.765,-8.1 6.665,-8.1 6.665,-0.7 4.765,-0.7 4.765,2.4 5.165,2.25 5.165,3.15 4.765,3 4.765,8.1 -6.665,8.1 -6.665,7.65 -7.065,7.8 -7.065,6.9
Top Designator:
  text ".Designator" at -7.498,-0.5 h1.5
Top Component Outline:
  lines w0.1: -7.065,6.9 -7.065,7.8 -6.665,7.65 -6.665,8.1 4.765,8.1 4.765,3 5.165,3.15 5.165,2.25 4.765,2.4 4.765,-0.7 6.665,-0.7 6.665,-8.1 -4.765,-8.1 -4.765,-7.35 -5.165,-7.5 -5.165,-6.6 -4.765,-6.75 -4.765,-2.35 -5.165,-2.5 -5.165,-1.5 -6.665,-1.5 -6.665,7.05 -7.065,6.9
Top 3D Body:
  lines w0.1: -7.065,6.9 -6.665,7.05 -6.665,-1.5 -5.165,-1.5 -5.165,-2.5 -4.765,-2.35 -4.765,-6.75 -5.165,-6.6 -5.165,-7.5 -4.765,-7.35 -4.765,-8.1 6.665,-8.1 6.665,-0.7 4.765,-0.7 4.765,2.4 5.165,2.25 5.165,3.15 4.765,3 4.765,8.1 -6.665,8.1 -6.665,7.65 -7.065,7.8 -7.065,6.9
Top Courtyard:
  lines w0.05: -7.265,-8.3 -7.265,8.3 6.865,8.3 6.865,-8.3 -7.265,-8.3
Top Component Center:
  lines w0.05: -0.5,0 0.5,0 ; 0,-0.5 0,0.5
3D body "691230310006.stp": height 16.35, standoff -3.65, extent -7.075,-8.05 6.62,8.05

## 691243300004 [mm] "Serie 2433 - 3.81 mm _ 4 pins"
height 7.3
pads (4):
  rrect50% 1.65x1.65 hole 1.1: 1(-5.715,3.8)
  round 1.65 hole 1.1: 2(-1.905,3.8) 3(1.905,3.8) 4(5.715,3.8)
Top Overlay:
  lines w0.2: -6.82,4.55 -7.62,4.55 -7.62,-4.55 7.62,-4.55 7.62,4.55 6.48,4.55 ; -4.62,4.55 -2.67,4.55 ; -1.14,4.55 1.13,4.55 ; 2.67,4.55 4.94,4.55
Top Designator:
  text ".Designator" at -7.498,-0.5 h1.5
Top Component Outline:
  lines w0.1: -7.62,-4.55 7.62,-4.55 7.62,4.55 -7.62,4.55 -7.62,-4.55
Top 3D Body:
  lines w0.1: -7.62,-4.55 -7.62,4.55 7.62,4.55 7.62,-4.55 -7.62,-4.55
Top Courtyard:
  lines w0.05: -7.82,-4.75 7.82,-4.75 7.82,4.75 -7.82,4.75 -7.82,-4.75
Top Component Center:
  lines w0.05: -0.5,0 0.5,0 ; 0,-0.5 0,0.5
3D body "691243300004.stp": height 7.32, standoff -3.48, extent -7.6,-4.55 7.64,4.55

## 691243300005 [mm] "Serie 2433 - 3.81 mm _ 5 pins"
height 7.3
pads (5):
  rrect50% 1.65x1.65 hole 1.1: 1(-7.62,3.8)
  round 1.65 hole 1.1: 2(-3.81,3.8) 3(0,3.8) 4(3.81,3.8) 5(7.62,3.8)
Top Overlay:
  lines w0.2: -8.725,4.55 -9.525,4.55 -9.525,-4.55 9.525,-4.55 9.525,4.55 8.385,4.55 ; -6.525,4.55 -4.575,4.55 ; -3.045,4.55 -0.775,4.55 ; 0.765,4.55 3.035,4.55 ; 4.575,4.55 6.845,4.55
Top Designator:
  text ".Designator" at -7.498,-0.5 h1.5
Top Component Outline:
  lines w0.1: -9.525,-4.55 9.525,-4.55 9.525,4.55 -9.525,4.55 -9.525,-4.55
Top 3D Body:
  lines w0.1: -9.525,-4.55 -9.525,4.55 9.525,4.55 9.525,-4.55 -9.525,-4.55
Top Courtyard:
  lines w0.05: -9.725,-4.75 9.725,-4.75 9.725,4.75 -9.725,4.75 -9.725,-4.75
Top Component Center:
  lines w0.05: -0.5,0 0.5,0 ; 0,-0.5 0,0.5
3D body "691243300005.stp": height 7.32, standoff -3.48, extent -9.505,-4.55 9.545,4.55

## 691243300006 [mm] "Serie 2433 - 3.81 mm _ 6 pins"
height 7.3
pads (6):
  rrect50% 1.65x1.65 hole 1.1: 1(-9.525,3.8)
  round 1.65 hole 1.1: 2(-5.715,3.8) 3(-1.905,3.8) 4(1.905,3.8) 5(5.715,3.8) 6(9.525,3.8)
Top Overlay:
  lines w0.2: -10.63,4.55 -11.43,4.55 -11.43,-4.55 11.43,-4.55 11.43,4.55 10.29,4.55 ; -8.43,4.55 -6.48,4.55 ; -4.95,4.55 -2.68,4.55 ; -1.14,4.55 1.13,4.55 ; 2.67,4.55 4.94,4.55 ; 6.48,4.55 8.75,4.55
Top Designator:
  text ".Designator" at -7.498,-0.5 h1.5
Top Component Outline:
  lines w0.1: -11.43,-4.55 -11.43,4.55 11.43,4.55 11.43,-4.55 -11.43,-4.55
Top 3D Body:
  lines w0.1: -11.43,-4.55 11.43,-4.55 11.43,4.55 -11.43,4.55 -11.43,-4.55
Top Courtyard:
  lines w0.05: -11.63,-4.75 -11.63,4.75 11.63,4.75 11.63,-4.75 -11.63,-4.75
Top Component Center:
  lines w0.05: -0.5,0 0.5,0 ; 0,-0.5 0,0.5
3D body "691243300006.stp": height 7.32, standoff -3.48, extent -11.41,-4.55 11.45,4.55

## 691243300007 [mm] "Serie 2433 - 3.81 mm _ 7 pins"
height 7.3
pads (7):
  rrect50% 1.65x1.65 hole 1.1: 1(-11.43,3.8)
  round 1.65 hole 1.1: 2(-7.62,3.8) 3(-3.81,3.8) 4(0,3.8) 5(3.81,3.8) 6(7.62,3.8) 7(11.43,3.8)
Top Overlay:
  lines w0.2: -12.535,4.55 -13.335,4.55 -13.335,-4.55 13.335,-4.55 13.335,4.55 12.195,4.55 ; -10.335,4.55 -8.385,4.55 ; -6.855,4.55 -4.585,4.55 ; -3.045,4.55 -0.775,4.55 ; 0.765,4.55 3.035,4.55 ; 4.575,4.55 6.845,4.55 ; 8.385,4.55 10.655,4.55
Top Designator:
  text ".Designator" at -7.498,-0.5 h1.5
Top Component Outline:
  lines w0.1: -13.335,-4.55 -13.335,4.55 13.335,4.55 13.335,-4.55 -13.335,-4.55
Top 3D Body:
  lines w0.1: -13.335,-4.55 13.335,-4.55 13.335,4.55 -13.335,4.55 -13.335,-4.55
Top Courtyard:
  lines w0.05: -13.535,-4.75 -13.535,4.75 13.535,4.75 13.535,-4.75 -13.535,-4.75
Top Component Center:
  lines w0.05: -0.5,0 0.5,0 ; 0,-0.5 0,0.5
3D body "691243300007.stp": height 7.32, standoff -3.48, extent -13.315,-4.55 13.355,4.55